# Altium footprint library TI Power Management Lighting and Display.PcbLib: 148 footprints (part 1 of 10)
Each footprint in its own frame and in the unit in brackets; x right, y up, seen from the top. Pads: shape width x height; smd on the part's side, far side on the other; paste and mask are expansions set on the pad; w line width, h text height; cw(c..) or ccw(c..) is an arc to the next point about the centre after c.
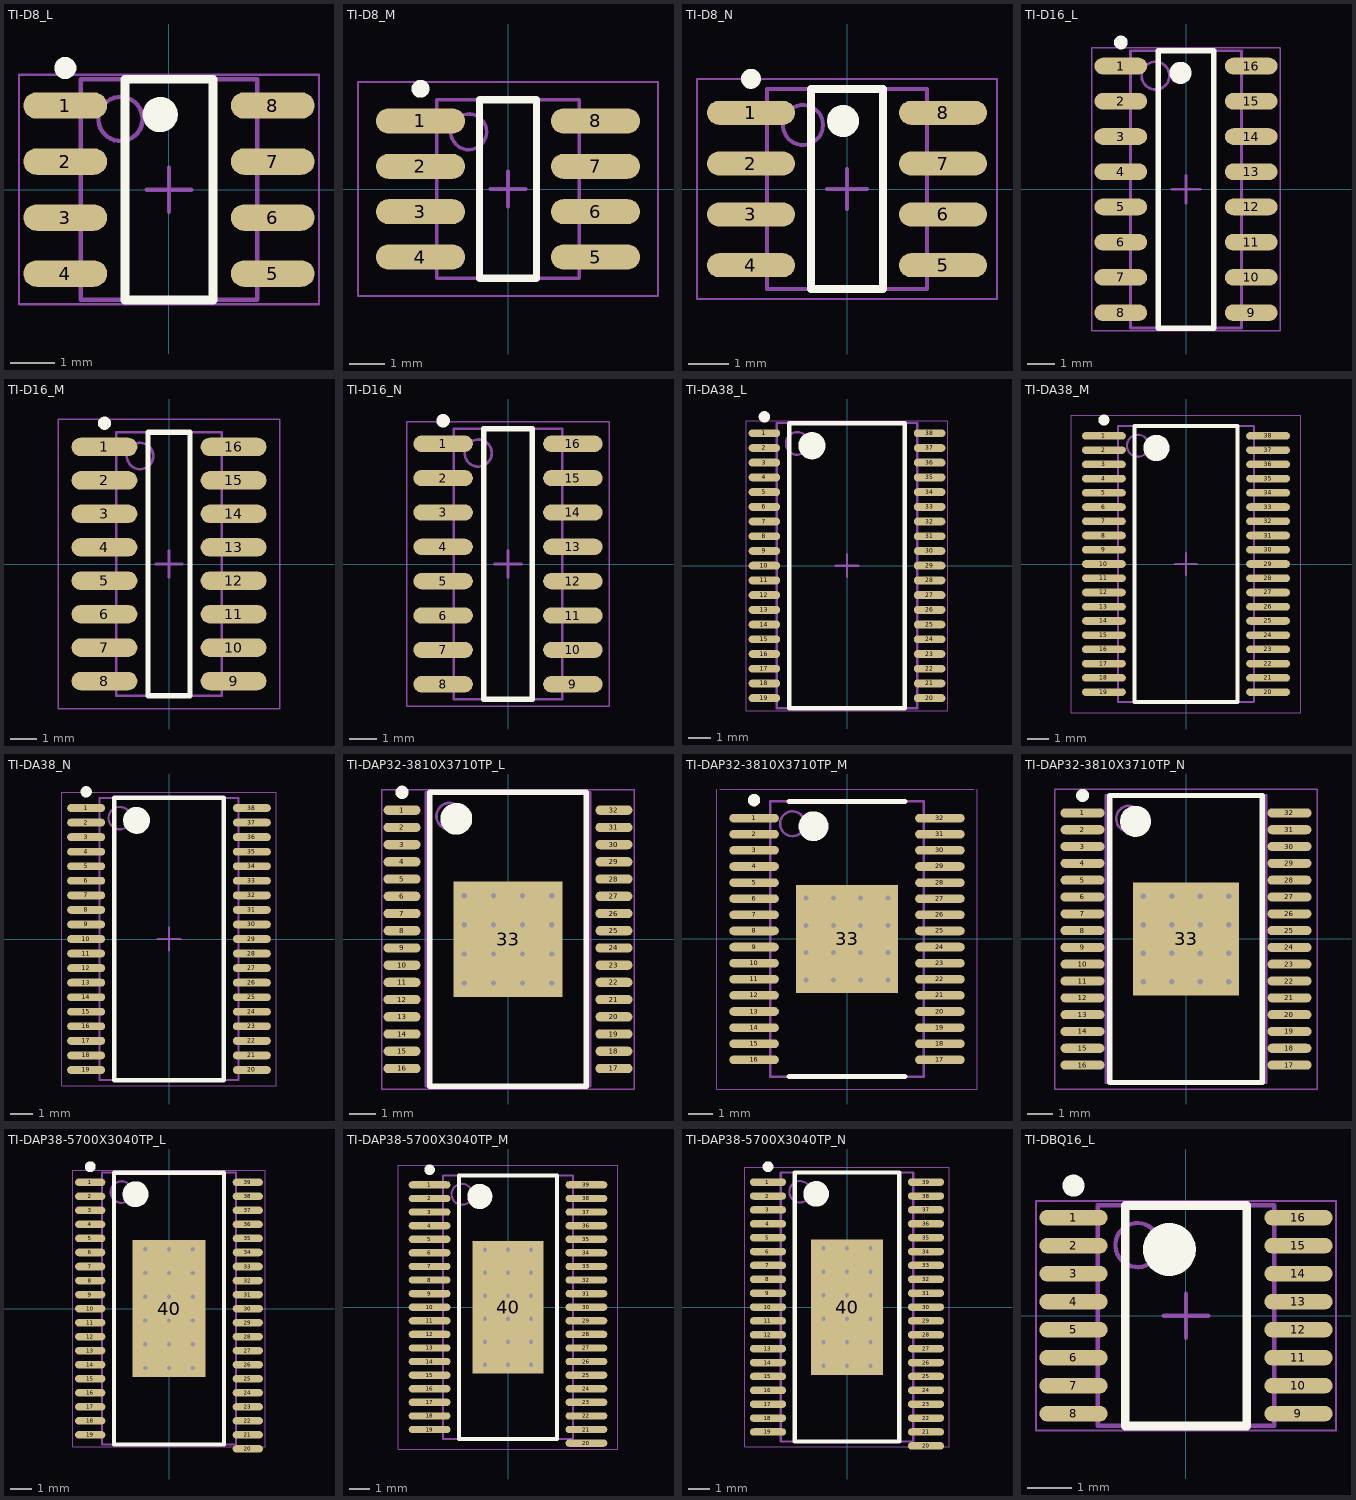
[diagram p0: the footprints below, top view; thin cyan lines are the x and y axes]

## TI-D8_L [mm] "SOIC, 8-Leads, Body 4.9x3.9mm, Pitch 1.27mm, IPC High Density"
height 1.75
pads (8):
  oval 1.9x0.6 smd: 1(-2.35,1.905) 2(-2.35,0.635) 3(-2.35,-0.635) 4(-2.35,-1.905) 5(2.35,-1.905) 6(2.35,-0.635) 7(2.35,0.635) 8(2.35,1.905)
Top Overlay:
  circle w0.25: c-2.35,2.755 r0.125
  circle w0.4: c-0.2,1.7 r0.2
  lines w0.2: -1,-2.5 -1,2.5 1,2.5 1,-2.5 -1,-2.5
Mechanical 13:
  circle w0.1: c-1.1,1.6 r0.5
  lines w0.1: -2,-2.5 -2,2.5 2,2.5 2,-2.5 -2,-2.5
Mechanical 15:
  lines w0.05: -3.4,-2.6 -3.4,2.6 3.4,2.6 3.4,-2.6 -3.4,-2.6
  lines w0.1: -0.5,0 0.5,0 ; 0,-0.5 0,0.5
3D body: height 1.75, standoff 0.1, extent -2,-2.5 2,2.5

## TI-D8_M [mm] "SOIC, 8-Leads, Body 4.9x3.9mm, Pitch 1.27mm, IPC Low Density"
height 1.75
pads (8):
  oval 2.5x0.7 smd: 1(-2.45,1.905) 2(-2.45,0.635) 3(-2.45,-0.635) 4(-2.45,-1.905) 5(2.45,-1.905) 6(2.45,-0.635) 7(2.45,0.635) 8(2.45,1.905)
Top Overlay:
  circle w0.25: c-2.45,2.805 r0.125
  lines w0.2: -0.8,-2.5 0.8,-2.5 0.8,2.5 -0.8,2.5 -0.8,-2.5
Mechanical 13:
  circle w0.1: c-1.1,1.6 r0.5
  lines w0.1: -2,-2.5 2,-2.5 2,2.5 -2,2.5 -2,-2.5
Mechanical 15:
  lines w0.05: -4.2,-3 4.2,-3 4.2,3 -4.2,3 -4.2,-3
  lines w0.1: -0.5,0 0.5,0 ; 0,-0.5 0,0.5
3D body: height 1.75, standoff 0.1, extent -2,-2.5 2,2.5

## TI-D8_N [mm] "SOIC, 8-Leads, Body 4.9x3.9mm, Pitch 1.27mm, IPC Medium Density"
height 1.75
pads (8):
  oval 2.2x0.6 smd: 1(-2.4,1.905) 2(-2.4,0.635) 3(-2.4,-0.635) 4(-2.4,-1.905) 5(2.4,-1.905) 6(2.4,-0.635) 7(2.4,0.635) 8(2.4,1.905)
Top Overlay:
  circle w0.25: c-2.4,2.755 r0.125
  circle w0.4: c-0.1,1.7 r0.2
  lines w0.2: -0.9,-2.5 -0.9,2.5 0.9,2.5 0.9,-2.5 -0.9,-2.5
Mechanical 13:
  circle w0.1: c-1.1,1.6 r0.5
  lines w0.1: -2,-2.5 -2,2.5 2,2.5 2,-2.5 -2,-2.5
Mechanical 15:
  lines w0.05: -3.75,-2.75 -3.75,2.75 3.75,2.75 3.75,-2.75 -3.75,-2.75
  lines w0.1: -0.5,0 0.5,0 ; 0,-0.5 0,0.5
3D body: height 1.75, standoff 0.1, extent -2,-2.5 2,2.5

## TI-D16_L [mm] "SOIC, 16-Leads, Body 9.9x3.9mm, Pitch 1.27mm, IPC High Density"
height 1.75
pads (16):
  oval 1.9x0.6 smd: 1(-2.35,4.445) 2(-2.35,3.175) 3(-2.35,1.905) 4(-2.35,0.635) 5(-2.35,-0.635) 6(-2.35,-1.905) 7(-2.35,-3.175) 8(-2.35,-4.445) 9(2.35,-4.445) 10(2.35,-3.175) 11(2.35,-1.905) 12(2.35,-0.635) 13(2.35,0.635) 14(2.35,1.905) 15(2.35,3.175) 16(2.35,4.445)
Top Overlay:
  circle w0.25: c-2.35,5.295 r0.125
  circle w0.4: c-0.2,4.2 r0.2
  lines w0.2: -1,-5 -1,5 1,5 1,-5 -1,-5
Mechanical 13:
  circle w0.1: c-1.1,4.1 r0.5
  lines w0.1: -2,-5 -2,5 2,5 2,-5 -2,-5
Mechanical 15:
  lines w0.05: -3.4,-5.1 -3.4,5.1 3.4,5.1 3.4,-5.1 -3.4,-5.1
  lines w0.1: -0.5,0 0.5,0 ; 0,-0.5 0,0.5
3D body: height 1.75, standoff 0.1, extent -2,-5 2,5

## TI-D16_M [mm] "SOIC, 16-Leads, Body 9.9x3.9mm, Pitch 1.27mm, IPC Low Density"
height 1.75
pads (16):
  oval 2.5x0.7 smd: 1(-2.45,4.445) 2(-2.45,3.175) 3(-2.45,1.905) 4(-2.45,0.635) 5(-2.45,-0.635) 6(-2.45,-1.905) 7(-2.45,-3.175) 8(-2.45,-4.445) 9(2.45,-4.445) 10(2.45,-3.175) 11(2.45,-1.905) 12(2.45,-0.635) 13(2.45,0.635) 14(2.45,1.905) 15(2.45,3.175) 16(2.45,4.445)
Top Overlay:
  circle w0.25: c-2.45,5.345 r0.125
  lines w0.2: -0.8,-5 -0.8,5 0.8,5 0.8,-5 -0.8,-5
Mechanical 13:
  circle w0.1: c-1.1,4.1 r0.5
  lines w0.1: -2,-5 -2,5 2,5 2,-5 -2,-5
Mechanical 15:
  lines w0.05: -4.2,-5.5 -4.2,5.5 4.2,5.5 4.2,-5.5 -4.2,-5.5
  lines w0.1: -0.5,0 0.5,0 ; 0,-0.5 0,0.5
3D body: height 1.75, standoff 0.1, extent -2,-5 2,5

## TI-D16_N [mm] "SOIC, 16-Leads, Body 9.9x3.9mm, Pitch 1.27mm, IPC Medium Density"
height 1.75
pads (16):
  oval 2.2x0.6 smd: 1(-2.4,4.445) 2(-2.4,3.175) 3(-2.4,1.905) 4(-2.4,0.635) 5(-2.4,-0.635) 6(-2.4,-1.905) 7(-2.4,-3.175) 8(-2.4,-4.445) 9(2.4,-4.445) 10(2.4,-3.175) 11(2.4,-1.905) 12(2.4,-0.635) 13(2.4,0.635) 14(2.4,1.905) 15(2.4,3.175) 16(2.4,4.445)
Top Overlay:
  circle w0.25: c-2.4,5.295 r0.125
  lines w0.2: -0.9,-5 -0.9,5 0.9,5 0.9,-5 -0.9,-5
Mechanical 13:
  circle w0.1: c-1.1,4.1 r0.5
  lines w0.1: -2,-5 -2,5 2,5 2,-5 -2,-5
Mechanical 15:
  lines w0.05: -3.75,-5.25 -3.75,5.25 3.75,5.25 3.75,-5.25 -3.75,-5.25
  lines w0.1: -0.5,0 0.5,0 ; 0,-0.5 0,0.5
3D body: height 1.75, standoff 0.1, extent -2,-5 2,5

## TI-DA38_L [mm] "SOP, 38-Leads, Body 12.5x6.1mm, Pitch 0.65mm, IPC High Density"
height 1.2
pads (38):
  oval 1.4x0.35 smd: 1(-3.65,5.85) 2(-3.65,5.2) 3(-3.65,4.55) 4(-3.65,3.9) 5(-3.65,3.25) 6(-3.65,2.6) 7(-3.65,1.95) 8(-3.65,1.3) 9(-3.65,0.65) 10(-3.65,0) 11(-3.65,-0.65) 12(-3.65,-1.3) 13(-3.65,-1.95) 14(-3.65,-2.6) 15(-3.65,-3.25) 16(-3.65,-3.9) 17(-3.65,-4.55) 18(-3.65,-5.2) 19(-3.65,-5.85) 20(3.65,-5.85) 21(3.65,-5.2) 22(3.65,-4.55) 23(3.65,-3.9) 24(3.65,-3.25) 25(3.65,-2.6) 26(3.65,-1.95) 27(3.65,-1.3) 28(3.65,-0.65) 29(3.65,0) 30(3.65,0.65) 31(3.65,1.3) 32(3.65,1.95) 33(3.65,2.6) 34(3.65,3.25) 35(3.65,3.9) 36(3.65,4.55) 37(3.65,5.2) 38(3.65,5.85)
Top Overlay:
  circle w0.25: c-3.65,6.575 r0.125
  circle w0.6: c-1.55,5.3 r0.3
  lines w0.2: -2.55,-6.3 -2.55,6.3 2.55,6.3 2.55,-6.3 -2.55,-6.3
Mechanical 13:
  circle w0.1: c-2.2,5.4 r0.5
  lines w0.1: -3.1,-6.3 -3.1,6.3 3.1,6.3 3.1,-6.3 -3.1,-6.3
Mechanical 15:
  lines w0.05: -4.45,-6.4 -4.45,6.4 4.45,6.4 4.45,-6.4 -4.45,-6.4
  lines w0.1: -0.5,0 0.5,0 ; 0,-0.5 0,0.5
3D body: height 1.2, standoff 0.05, extent -3.1,-6.3 3.1,6.3

## TI-DA38_M [mm] "SOP, 38-Leads, Body 12.5x6.1mm, Pitch 0.65mm, IPC Low Density"
height 1.2
pads (38):
  oval 2x0.35 smd: 1(-3.75,5.85) 2(-3.75,5.2) 3(-3.75,4.55) 4(-3.75,3.9) 5(-3.75,3.25) 6(-3.75,2.6) 7(-3.75,1.95) 8(-3.75,1.3) 9(-3.75,0.65) 10(-3.75,0) 11(-3.75,-0.65) 12(-3.75,-1.3) 13(-3.75,-1.95) 14(-3.75,-2.6) 15(-3.75,-3.25) 16(-3.75,-3.9) 17(-3.75,-4.55) 18(-3.75,-5.2) 19(-3.75,-5.85) 20(3.75,-5.85) 21(3.75,-5.2) 22(3.75,-4.55) 23(3.75,-3.9) 24(3.75,-3.25) 25(3.75,-2.6) 26(3.75,-1.95) 27(3.75,-1.3) 28(3.75,-0.65) 29(3.75,0) 30(3.75,0.65) 31(3.75,1.3) 32(3.75,1.95) 33(3.75,2.6) 34(3.75,3.25) 35(3.75,3.9) 36(3.75,4.55) 37(3.75,5.2) 38(3.75,5.85)
Top Overlay:
  circle w0.25: c-3.75,6.575 r0.125
  circle w0.6: c-1.35,5.3 r0.3
  lines w0.2: -2.35,-6.3 -2.35,6.3 2.35,6.3 2.35,-6.3 -2.35,-6.3
Mechanical 13:
  circle w0.1: c-2.2,5.4 r0.5
  lines w0.1: -3.1,-6.3 -3.1,6.3 3.1,6.3 3.1,-6.3 -3.1,-6.3
Mechanical 15:
  lines w0.05: -5.25,-6.8 -5.25,6.8 5.25,6.8 5.25,-6.8 -5.25,-6.8
  lines w0.1: -0.5,0 0.5,0 ; 0,-0.5 0,0.5
3D body: height 1.2, standoff 0.05, extent -3.1,-6.3 3.1,6.3

## TI-DA38_N [mm] "SOP, 38-Leads, Body 12.5x6.1mm, Pitch 0.65mm, IPC Medium Density"
height 1.2
pads (38):
  oval 1.7x0.35 smd: 1(-3.7,5.85) 2(-3.7,5.2) 3(-3.7,4.55) 4(-3.7,3.9) 5(-3.7,3.25) 6(-3.7,2.6) 7(-3.7,1.95) 8(-3.7,1.3) 9(-3.7,0.65) 10(-3.7,0) 11(-3.7,-0.65) 12(-3.7,-1.3) 13(-3.7,-1.95) 14(-3.7,-2.6) 15(-3.7,-3.25) 16(-3.7,-3.9) 17(-3.7,-4.55) 18(-3.7,-5.2) 19(-3.7,-5.85) 20(3.7,-5.85) 21(3.7,-5.2) 22(3.7,-4.55) 23(3.7,-3.9) 24(3.7,-3.25) 25(3.7,-2.6) 26(3.7,-1.95) 27(3.7,-1.3) 28(3.7,-0.65) 29(3.7,0) 30(3.7,0.65) 31(3.7,1.3) 32(3.7,1.95) 33(3.7,2.6) 34(3.7,3.25) 35(3.7,3.9) 36(3.7,4.55) 37(3.7,5.2) 38(3.7,5.85)
Top Overlay:
  circle w0.25: c-3.7,6.575 r0.125
  circle w0.6: c-1.45,5.3 r0.3
  lines w0.2: -2.45,-6.3 -2.45,6.3 2.45,6.3 2.45,-6.3 -2.45,-6.3
Mechanical 13:
  circle w0.1: c-2.2,5.4 r0.5
  lines w0.1: -3.1,-6.3 -3.1,6.3 3.1,6.3 3.1,-6.3 -3.1,-6.3
Mechanical 15:
  lines w0.05: -4.8,-6.55 -4.8,6.55 4.8,6.55 4.8,-6.55 -4.8,-6.55
  lines w0.1: -0.5,0 0.5,0 ; 0,-0.5 0,0.5
3D body: height 1.2, standoff 0.05, extent -3.1,-6.3 3.1,6.3

## TI-DAP32-3810X3710TP_L [mm] "SOIC, 32-Leads, Body 11x6.1mm, Pitch 0.65mm, Thermal Pad 3.71 x3.81mm, IPC High Density"
height 1.2
pads (33):
  oval 1.4x0.35 smd: 1(-4,4.875) 2(-4,4.225) 3(-4,3.575) 4(-4,2.925) 5(-4,2.275) 6(-4,1.625) 7(-4,0.975) 8(-4,0.325) 9(-4,-0.325) 10(-4,-0.975) 11(-4,-1.625) 12(-4,-2.275) 13(-4,-2.925) 14(-4,-3.575) 15(-4,-4.225) 16(-4,-4.875) 17(4,-4.875) 18(4,-4.225) 19(4,-3.575) 20(4,-2.925) 21(4,-2.275) 22(4,-1.625) 23(4,-0.975) 24(4,-0.325) 25(4,0.325) 26(4,0.975) 27(4,1.625) 28(4,2.275) 29(4,2.925) 30(4,3.575) 31(4,4.225) 32(4,4.875)
  rect 4.11x4.36 smd: 33(0,0)
via -1.65,1.65 diameter 0.5 hole 0.2
via -0.55,1.65 diameter 0.5 hole 0.2
via 0.55,1.65 diameter 0.5 hole 0.2
via 1.65,1.65 diameter 0.5 hole 0.2
via -1.65,0.55 diameter 0.5 hole 0.2
via -0.55,0.55 diameter 0.5 hole 0.2
via 0.55,0.55 diameter 0.5 hole 0.2
via 1.65,0.55 diameter 0.5 hole 0.2
via -1.65,-0.55 diameter 0.5 hole 0.2
via -0.55,-0.55 diameter 0.5 hole 0.2
via 0.55,-0.55 diameter 0.5 hole 0.2
via 1.65,-0.55 diameter 0.5 hole 0.2
via -1.65,-1.65 diameter 0.5 hole 0.2
via -0.55,-1.65 diameter 0.5 hole 0.2
via 0.55,-1.65 diameter 0.5 hole 0.2
via 1.65,-1.65 diameter 0.5 hole 0.2
Top Overlay:
  circle w0.25: c-4,5.55 r0.125
  circle w0.6: c-1.95,4.55 r0.3
  lines w0.2: -2.95,-5.55 -2.95,5.55 2.95,5.55 2.95,-5.55 -2.95,-5.55
Mechanical 13:
  circle w0.1: c-2.2,4.65 r0.5
  lines w0.1: -3.1,-5.55 -3.1,5.55 3.1,5.55 3.1,-5.55 -3.1,-5.55
Mechanical 15:
  lines w0.05: -4.775,-5.65 -4.775,5.65 4.775,5.65 4.775,-5.65 -4.775,-5.65
  lines w0.1: -0.5,0 0.5,0 ; 0,-0.5 0,0.5
3D body: height 1.2, standoff 0.05, extent -3.1,-5.55 3.1,5.55

## TI-DAP32-3810X3710TP_M [mm] "SOIC, 32-Leads, Body 11x6.1mm, Pitch 0.65mm, Thermal Pad 3.71 x3.81mm, IPC Low Density"
height 1.2
pads (33):
  oval 2x0.35 smd: 1(-3.75,4.875) 2(-3.75,4.225) 3(-3.75,3.575) 4(-3.75,2.925) 5(-3.75,2.275) 6(-3.75,1.625) 7(-3.75,0.975) 8(-3.75,0.325) 9(-3.75,-0.325) 10(-3.75,-0.975) 11(-3.75,-1.625) 12(-3.75,-2.275) 13(-3.75,-2.925) 14(-3.75,-3.575) 15(-3.75,-4.225) 16(-3.75,-4.875) 17(3.75,-4.875) 18(3.75,-4.225) 19(3.75,-3.575) 20(3.75,-2.925) 21(3.75,-2.275) 22(3.75,-1.625) 23(3.75,-0.975) 24(3.75,-0.325) 25(3.75,0.325) 26(3.75,0.975) 27(3.75,1.625) 28(3.75,2.275) 29(3.75,2.925) 30(3.75,3.575) 31(3.75,4.225) 32(3.75,4.875)
  rect 4.11x4.36 smd: 33(0,0)
via -1.65,1.65 diameter 0.5 hole 0.2
via -0.55,1.65 diameter 0.5 hole 0.2
via 0.55,1.65 diameter 0.5 hole 0.2
via 1.65,1.65 diameter 0.5 hole 0.2
via -1.65,0.55 diameter 0.5 hole 0.2
via -0.55,0.55 diameter 0.5 hole 0.2
via 0.55,0.55 diameter 0.5 hole 0.2
via 1.65,0.55 diameter 0.5 hole 0.2
via -1.65,-0.55 diameter 0.5 hole 0.2
via -0.55,-0.55 diameter 0.5 hole 0.2
via 0.55,-0.55 diameter 0.5 hole 0.2
via 1.65,-0.55 diameter 0.5 hole 0.2
via -1.65,-1.65 diameter 0.5 hole 0.2
via -0.55,-1.65 diameter 0.5 hole 0.2
via 0.55,-1.65 diameter 0.5 hole 0.2
via 1.65,-1.65 diameter 0.5 hole 0.2
Top Overlay:
  circle w0.25: c-3.75,5.6 r0.125
  circle w0.6: c-1.35,4.55 r0.3
  lines w0.2: -2.35,-5.55 2.35,-5.55 ; -2.35,5.55 2.35,5.55
Mechanical 13:
  circle w0.1: c-2.2,4.65 r0.5
  lines w0.1: -3.1,-5.55 -3.1,5.55 3.1,5.55 3.1,-5.55 -3.1,-5.55
Mechanical 15:
  lines w0.05: -5.25,6.05 -5.25,-6.05 5.25,-6.05 5.25,6.05 ; -5.125,6.05 5.125,6.05
  lines w0.1: -0.5,0 0.5,0 ; 0,-0.5 0,0.5
3D body: height 1.2, standoff 0.05, extent -3.1,-5.55 3.1,5.55

## TI-DAP32-3810X3710TP_N [mm] "SOIC, 32-Leads, Body 11x6.1mm, Pitch 0.65mm, Thermal Pad 3.71 x3.81mm, IPC Medium Density"
height 1.2
pads (33):
  oval 1.7x0.35 smd: 1(-4,4.875) 2(-4,4.225) 3(-4,3.575) 4(-4,2.925) 5(-4,2.275) 6(-4,1.625) 7(-4,0.975) 8(-4,0.325) 9(-4,-0.325) 10(-4,-0.975) 11(-4,-1.625) 12(-4,-2.275) 13(-4,-2.925) 14(-4,-3.575) 15(-4,-4.225) 16(-4,-4.875) 17(4,-4.875) 18(4,-4.225) 19(4,-3.575) 20(4,-2.925) 21(4,-2.275) 22(4,-1.625) 23(4,-0.975) 24(4,-0.325) 25(4,0.325) 26(4,0.975) 27(4,1.625) 28(4,2.275) 29(4,2.925) 30(4,3.575) 31(4,4.225) 32(4,4.875)
  rect 4.11x4.36 smd: 33(0,0)
via -1.65,1.65 diameter 0.5 hole 0.2
via -0.55,1.65 diameter 0.5 hole 0.2
via 0.55,1.65 diameter 0.5 hole 0.2
via 1.65,1.65 diameter 0.5 hole 0.2
via -1.65,0.55 diameter 0.5 hole 0.2
via -0.55,0.55 diameter 0.5 hole 0.2
via 0.55,0.55 diameter 0.5 hole 0.2
via 1.65,0.55 diameter 0.5 hole 0.2
via -1.65,-0.55 diameter 0.5 hole 0.2
via -0.55,-0.55 diameter 0.5 hole 0.2
via 0.55,-0.55 diameter 0.5 hole 0.2
via 1.65,-0.55 diameter 0.5 hole 0.2
via -1.65,-1.65 diameter 0.5 hole 0.2
via -0.55,-1.65 diameter 0.5 hole 0.2
via 0.55,-1.65 diameter 0.5 hole 0.2
via 1.65,-1.65 diameter 0.5 hole 0.2
Top Overlay:
  circle w0.25: c-4,5.55 r0.125
  circle w0.6: c-1.95,4.55 r0.3
  lines w0.2: -2.95,-5.55 -2.95,5.55 2.95,5.55 2.95,-5.55 -2.95,-5.55
Mechanical 13:
  circle w0.1: c-2.2,4.65 r0.5
  lines w0.1: -3.1,-5.55 -3.1,5.55 3.1,5.55 3.1,-5.55 -3.1,-5.55
Mechanical 15:
  lines w0.05: -5.075,-5.8 -5.075,5.8 5.075,5.8 5.075,-5.8 -5.075,-5.8
  lines w0.1: -0.5,0 0.5,0 ; 0,-0.5 0,0.5
3D body: height 1.2, standoff 0.05, extent -3.1,-5.55 3.1,5.55

## TI-DAP38-5700X3040TP_L [mm] "SOP, 38-Leads, Body 12.5x6.1mm, Pitch 0.65mm, Thermal Pad 5.7x3.04mm, IPC High Density"
height 1.2
pads (40):
  oval 1.4x0.35 smd: 1(-3.65,5.85) 2(-3.65,5.2) 3(-3.65,4.55) 4(-3.65,3.9) 5(-3.65,3.25) 6(-3.65,2.6) 7(-3.65,1.95) 8(-3.65,1.3) 9(-3.65,0.65) 10(-3.65,0) 11(-3.65,-0.65) 12(-3.65,-1.3) 13(-3.65,-1.95) 14(-3.65,-2.6) 15(-3.65,-3.25) 16(-3.65,-3.9) 17(-3.65,-4.55) 18(-3.65,-5.2) 19(-3.65,-5.85) 20(3.65,-6.5) 21(3.65,-5.85) 22(3.65,-5.2) 23(3.65,-4.55) 24(3.65,-3.9) 25(3.65,-3.25) 26(3.65,-2.6) 27(3.65,-1.95) 28(3.65,-1.3) 29(3.65,-0.65) 30(3.65,0) 31(3.65,0.65) 32(3.65,1.3) 33(3.65,1.95) 34(3.65,2.6) 35(3.65,3.25) 36(3.65,3.9) 37(3.65,4.55) 38(3.65,5.2) 39(3.65,5.85)
  rect 3.39x6.35 smd: 40(0,0)
via -1.1,2.75 diameter 0.5 hole 0.2
via 0,2.75 diameter 0.5 hole 0.2
via 1.1,2.75 diameter 0.5 hole 0.2
via -1.1,1.65 diameter 0.5 hole 0.2
via 0,1.65 diameter 0.5 hole 0.2
via 1.1,1.65 diameter 0.5 hole 0.2
via -1.1,0.55 diameter 0.5 hole 0.2
via 0,0.55 diameter 0.5 hole 0.2
via 1.1,0.55 diameter 0.5 hole 0.2
via -1.1,-0.55 diameter 0.5 hole 0.2
via 0,-0.55 diameter 0.5 hole 0.2
via 1.1,-0.55 diameter 0.5 hole 0.2
via -1.1,-1.65 diameter 0.5 hole 0.2
via 0,-1.65 diameter 0.5 hole 0.2
via 1.1,-1.65 diameter 0.5 hole 0.2
via -1.1,-2.75 diameter 0.5 hole 0.2
via 0,-2.75 diameter 0.5 hole 0.2
via 1.1,-2.75 diameter 0.5 hole 0.2
Top Overlay:
  circle w0.25: c-3.65,6.575 r0.125
  circle w0.6: c-1.55,5.3 r0.3
  lines w0.2: -2.55,-6.3 -2.55,6.3 2.55,6.3 2.55,-6.3 -2.55,-6.3
Mechanical 13:
  circle w0.1: c-2.2,5.4 r0.5
  lines w0.1: -3.1,-6.3 -3.1,6.3 3.1,6.3 3.1,-6.3 -3.1,-6.3
Mechanical 15:
  lines w0.05: -4.45,-6.4 -4.45,6.4 4.45,6.4 4.45,-6.4 -4.45,-6.4
  lines w0.1: -0.5,0 0.5,0 ; 0,-0.5 0,0.5
3D body: height 1.2, standoff 0.05, extent -3.1,-6.3 3.1,6.3

## TI-DAP38-5700X3040TP_M [mm] "SOP, 38-Leads, Body 12.5x6.1mm, Pitch 0.65mm, Thermal Pad 5.7x3.04mm, IPC Low Density"
height 1.2
pads (40):
  oval 2x0.35 smd: 1(-3.75,5.85) 2(-3.75,5.2) 3(-3.75,4.55) 4(-3.75,3.9) 5(-3.75,3.25) 6(-3.75,2.6) 7(-3.75,1.95) 8(-3.75,1.3) 9(-3.75,0.65) 10(-3.75,0) 11(-3.75,-0.65) 12(-3.75,-1.3) 13(-3.75,-1.95) 14(-3.75,-2.6) 15(-3.75,-3.25) 16(-3.75,-3.9) 17(-3.75,-4.55) 18(-3.75,-5.2) 19(-3.75,-5.85) 20(3.75,-6.5) 21(3.75,-5.85) 22(3.75,-5.2) 23(3.75,-4.55) 24(3.75,-3.9) 25(3.75,-3.25) 26(3.75,-2.6) 27(3.75,-1.95) 28(3.75,-1.3) 29(3.75,-0.65) 30(3.75,0) 31(3.75,0.65) 32(3.75,1.3) 33(3.75,1.95) 34(3.75,2.6) 35(3.75,3.25) 36(3.75,3.9) 37(3.75,4.55) 38(3.75,5.2) 39(3.75,5.85)
  rect 3.39x6.35 smd: 40(0,0)
via -1.1,2.75 diameter 0.5 hole 0.2
via 0,2.75 diameter 0.5 hole 0.2
via 1.1,2.75 diameter 0.5 hole 0.2
via -1.1,1.65 diameter 0.5 hole 0.2
via 0,1.65 diameter 0.5 hole 0.2
via 1.1,1.65 diameter 0.5 hole 0.2
via -1.1,0.55 diameter 0.5 hole 0.2
via 0,0.55 diameter 0.5 hole 0.2
via 1.1,0.55 diameter 0.5 hole 0.2
via -1.1,-0.55 diameter 0.5 hole 0.2
via 0,-0.55 diameter 0.5 hole 0.2
via 1.1,-0.55 diameter 0.5 hole 0.2
via -1.1,-1.65 diameter 0.5 hole 0.2
via 0,-1.65 diameter 0.5 hole 0.2
via 1.1,-1.65 diameter 0.5 hole 0.2
via -1.1,-2.75 diameter 0.5 hole 0.2
via 0,-2.75 diameter 0.5 hole 0.2
via 1.1,-2.75 diameter 0.5 hole 0.2
Top Overlay:
  circle w0.25: c-3.75,6.575 r0.125
  circle w0.6: c-1.35,5.3 r0.3
  lines w0.2: -2.35,-6.3 -2.35,6.3 2.35,6.3 2.35,-6.3 -2.35,-6.3
Mechanical 13:
  circle w0.1: c-2.2,5.4 r0.5
  lines w0.1: -3.1,-6.3 -3.1,6.3 3.1,6.3 3.1,-6.3 -3.1,-6.3
Mechanical 15:
  lines w0.05: -5.25,-6.8 -5.25,6.8 5.25,6.8 5.25,-6.8 -5.25,-6.8
  lines w0.1: -0.5,0 0.5,0 ; 0,-0.5 0,0.5
3D body: height 1.2, standoff 0.05, extent -3.1,-6.3 3.1,6.3

## TI-DAP38-5700X3040TP_N [mm] "SOP, 38-Leads, Body 12.5x6.1mm, Pitch 0.65mm, Thermal Pad 5.7x3.04mm, IPC Medium Density"
height 1.2
pads (40):
  oval 1.7x0.35 smd: 1(-3.7,5.85) 2(-3.7,5.2) 3(-3.7,4.55) 4(-3.7,3.9) 5(-3.7,3.25) 6(-3.7,2.6) 7(-3.7,1.95) 8(-3.7,1.3) 9(-3.7,0.65) 10(-3.7,0) 11(-3.7,-0.65) 12(-3.7,-1.3) 13(-3.7,-1.95) 14(-3.7,-2.6) 15(-3.7,-3.25) 16(-3.7,-3.9) 17(-3.7,-4.55) 18(-3.7,-5.2) 19(-3.7,-5.85) 20(3.7,-6.5) 21(3.7,-5.85) 22(3.7,-5.2) 23(3.7,-4.55) 24(3.7,-3.9) 25(3.7,-3.25) 26(3.7,-2.6) 27(3.7,-1.95) 28(3.7,-1.3) 29(3.7,-0.65) 30(3.7,0) 31(3.7,0.65) 32(3.7,1.3) 33(3.7,1.95) 34(3.7,2.6) 35(3.7,3.25) 36(3.7,3.9) 37(3.7,4.55) 38(3.7,5.2) 39(3.7,5.85)
  rect 3.39x6.35 smd: 40(0,0)
via -1.1,2.75 diameter 0.5 hole 0.2
via 0,2.75 diameter 0.5 hole 0.2
via 1.1,2.75 diameter 0.5 hole 0.2
via -1.1,1.65 diameter 0.5 hole 0.2
via 0,1.65 diameter 0.5 hole 0.2
via 1.1,1.65 diameter 0.5 hole 0.2
via -1.1,0.55 diameter 0.5 hole 0.2
via 0,0.55 diameter 0.5 hole 0.2
via 1.1,0.55 diameter 0.5 hole 0.2
via -1.1,-0.55 diameter 0.5 hole 0.2
via 0,-0.55 diameter 0.5 hole 0.2
via 1.1,-0.55 diameter 0.5 hole 0.2
via -1.1,-1.65 diameter 0.5 hole 0.2
via 0,-1.65 diameter 0.5 hole 0.2
via 1.1,-1.65 diameter 0.5 hole 0.2
via -1.1,-2.75 diameter 0.5 hole 0.2
via 0,-2.75 diameter 0.5 hole 0.2
via 1.1,-2.75 diameter 0.5 hole 0.2
Top Overlay:
  circle w0.25: c-3.7,6.575 r0.125
  circle w0.6: c-1.45,5.3 r0.3
  lines w0.2: -2.45,-6.3 -2.45,6.3 2.45,6.3 2.45,-6.3 -2.45,-6.3
Mechanical 13:
  circle w0.1: c-2.2,5.4 r0.5
  lines w0.1: -3.1,-6.3 -3.1,6.3 3.1,6.3 3.1,-6.3 -3.1,-6.3
Mechanical 15:
  lines w0.05: -4.8,-6.55 -4.8,6.55 4.8,6.55 4.8,-6.55 -4.8,-6.55
  lines w0.1: -0.5,0 0.5,0 ; 0,-0.5 0,0.5
3D body: height 1.2, standoff 0.05, extent -3.1,-6.3 3.1,6.3

## TI-DBQ16_L [mm] "SOP, 16-Leads, Body 4.9x3.9mm, Pitch 0.635mm, IPC High Density"
height 1.75
pads (16):
  oval 1.55x0.35 smd: 1(-2.55,2.222) 2(-2.55,1.587) 3(-2.55,0.953) 4(-2.55,0.318) 5(-2.55,-0.318) 6(-2.55,-0.953) 7(-2.55,-1.587) 8(-2.55,-2.222) 9(2.55,-2.222) 10(2.55,-1.587) 11(2.55,-0.953) 12(2.55,-0.318) 13(2.55,0.318) 14(2.55,0.953) 15(2.55,1.587) 16(2.55,2.222)
Top Overlay:
  circle w0.25: c-2.55,2.947 r0.125
  circle w0.6: c-0.375,1.5 r0.3
  lines w0.2: -1.375,-2.5 -1.375,2.5 1.375,2.5 1.375,-2.5 -1.375,-2.5
Mechanical 13:
  circle w0.1: c-1.1,1.6 r0.5
  lines w0.1: -2,-2.5 -2,2.5 2,2.5 2,-2.5 -2,-2.5
Mechanical 15:
  lines w0.05: -3.4,-2.6 -3.4,2.6 3.4,2.6 3.4,-2.6 -3.4,-2.6
  lines w0.1: -0.5,0 0.5,0 ; 0,-0.5 0,0.5
3D body: height 1.75, standoff 0.1, extent -2,-2.5 2,2.5